# Altium footprint library PMCXB900UEL_Design.PcbLib: 1 footprints
Each footprint in its own frame and in the unit in brackets; x right, y up, seen from the top. Pads: shape width x height; smd on the part's side, far side on the other; paste and mask are expansions set on the pad; w line width, h text height; cw(c..) or ccw(c..) is an arc to the next point about the centre after c.
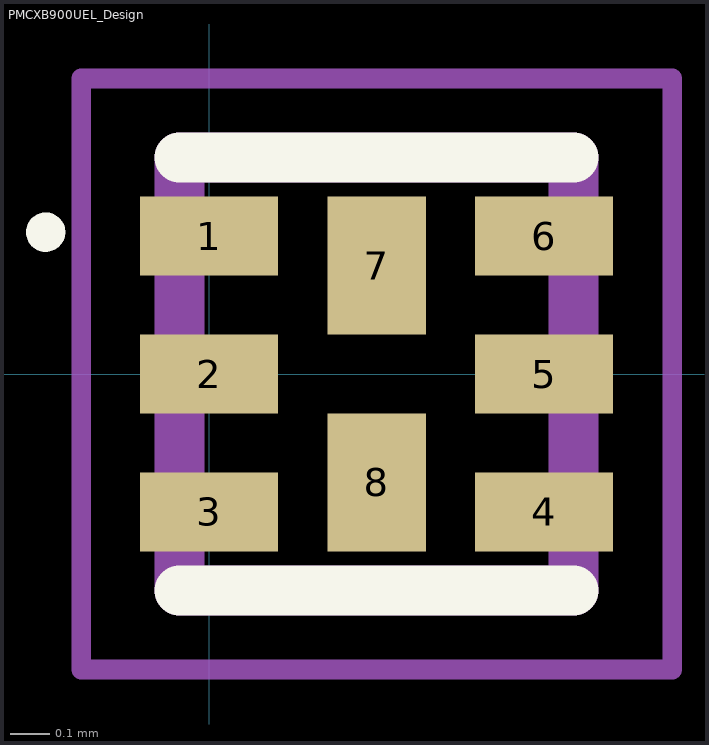
[diagram p0: the footprint, top view; thin cyan lines are the x and y axes]

## PMCXB900UEL_Design [mm]
pads (8):
  rect 0.35x0.2 smd paste-1 mask+0: 1(0,0.35) 2(0,0) 3(0,-0.35) 4(0.85,-0.35) 5(0.85,0) 6(0.85,0.35)
  rect 0.25x0.35 smd paste-1 mask+0: 7(0.425,0.275) 8(0.425,-0.275)
Top Overlay:
  circle w0.05: c-0.415,0.36 r0.025
  lines w0.127: -0.075,-0.55 0.925,-0.55 ; -0.075,0.55 0.925,0.55
Top Paste:
  region: 0.975,0.25 0.725,0.25 0.725,0.45 0.975,0.45
  region: 0.975,-0.1 0.726,-0.1 0.726,0.1 0.975,0.1
  region: 0.975,-0.45 0.725,-0.45 0.725,-0.25 0.975,-0.25
  region: 0.125,-0.45 -0.125,-0.45 -0.125,-0.25 0.125,-0.25
  region: 0.125,-0.1 -0.125,-0.1 -0.125,0.1 0.125,0.1
  region: 0.125,0.25 -0.126,0.25 -0.126,0.45 0.125,0.45
  region: 0.504,0.165 0.346,0.165 0.346,0.386 0.504,0.386
  region: 0.504,-0.386 0.346,-0.386 0.346,-0.165 0.504,-0.165
Top Solder:
  region: 0.175,0.2 -0.175,0.2 -0.175,0.5 0.175,0.5
  region: 0.6,-0.501 0.25,-0.501 0.25,-0.05 0.6,-0.05
  region: 0.6,0.05 0.25,0.05 0.25,0.5 0.6,0.5
  region: 0.175,-0.15 -0.176,-0.15 -0.176,0.15 0.175,0.15
  region: 0.175,-0.501 -0.176,-0.501 -0.176,-0.2 0.175,-0.2
  region: 1.025,-0.5 0.675,-0.5 0.675,-0.2 1.025,-0.2
  region: 1.025,-0.15 0.675,-0.15 0.675,0.15 1.025,0.15
  region: 1.025,0.2 0.675,0.2 0.675,0.5 1.025,0.5
Mechanical 13:
  circle w0.05: c0.075,0.35 r0.025
  lines w0.127: -0.075,-0.55 0.925,-0.55 0.925,0.55 -0.075,0.55 -0.075,-0.55
Mechanical 15:
  lines w0.05: -0.325,-0.75 1.175,-0.75 1.175,0.75 -0.325,0.75 -0.325,-0.75
3D body "PMCXB900UELZ.STEP": height 0.38, standoff -0.02, extent -0.075,-0.55 0.925,0.55